# EAGLE library part PCM5102 (library Fancy_InternetRadio)
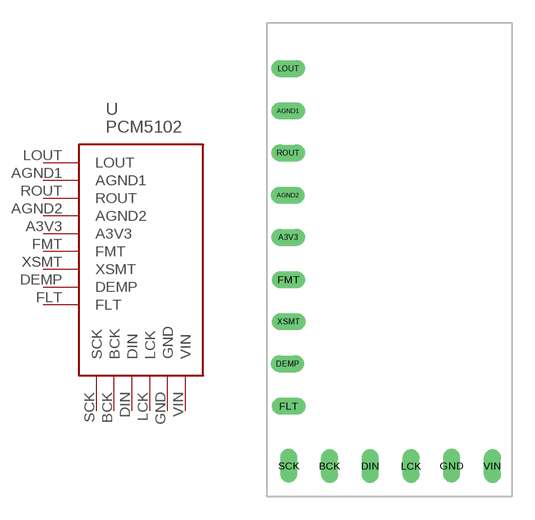
[diagram p7: symbol with the pads of PCM5102; footprint PCM5102]

Designator prefix -

## PCM5102  [PCM5102]
A3V3  A3V3
AGND1  AGND1
AGND2  AGND2
BCK  BCK
DEMP  DEMP
DIN  DIN
FLT  FLT
FMT  FMT
GND  GND
LCK  LCK
LOUT  LOUT
ROUT  ROUT
SCK  SCK
VIN  VIN
XSMT  XSMT

## Footprint PCM5102 (pad centres in mm)
drill 0.6 long: A3V3 1.375,16.968; AGND1 1.365,25.248; AGND2 1.355,19.728; BCK 4.074,2.01; DEMP 1.328,8.688; DIN 6.739,2.01; FLT 1.405,5.928; FMT 1.395,14.208; GND 12.068,2.02; LCK 9.403,2; LOUT 1.385,28.008; ROUT 1.365,22.488; SCK 1.41,2.02; VIN 14.732,2.01; XSMT 1.405,11.448